# EAGLE library part TPS62065 (library chips)
Step down DC-DC converter.
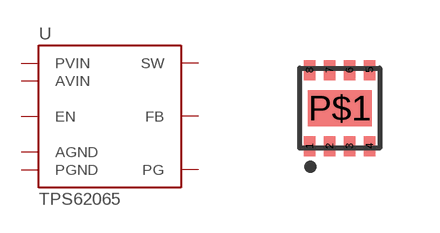
[diagram p30: symbol with the pads of S-PWSON-N8; footprint S-PWSON-N8]

Designator prefix U

## TPS62065 (DIGIKEY: 296-39441-1-ND)  [S-PWSON-N8]
1  PGND
2  SW
3  AGND
4  FB
5  EN
6  PG
7  AVIN
8  PVIN
P$1  PGND

## Footprint S-PWSON-N8 (pad centres in mm)
smd 0.28 x 0.5: 1 -0.75,-0.95; 2 -0.25,-0.95; 3 0.25,-0.95; 4 0.75,-0.95; 5 0.75,0.95; 6 0.25,0.95; 7 -0.25,0.95; 8 -0.75,0.95
smd 1.6 x 0.9: P$1 0,0